# Altium footprint library RP235xA.PcbLib: 1 footprints
Each footprint in its own frame and in the unit in brackets; x right, y up, seen from the top. Pads: shape width x height; smd on the part's side, far side on the other; paste and mask are expansions set on the pad; w line width, h text height; cw(c..) or ccw(c..) is an arc to the next point about the centre after c.
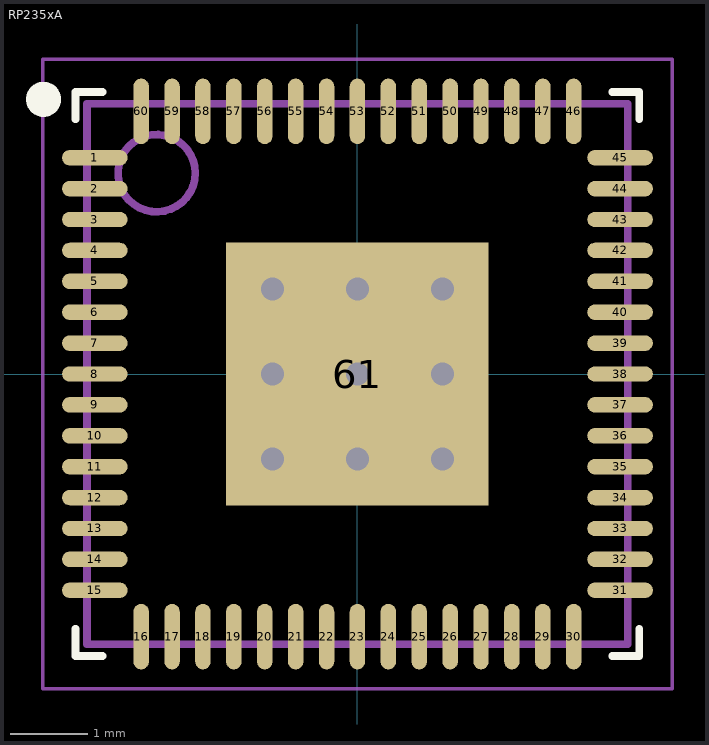
[diagram p0: the footprint, top view; thin cyan lines are the x and y axes]

## RP235xA [mm]
height 0.9
pads (61):
  oval 0.85x0.2 smd: 1(-3.4,2.8) 2(-3.4,2.4) 3(-3.4,2) 4(-3.4,1.6) 5(-3.4,1.2) 6(-3.4,0.8) 7(-3.4,0.4) 8(-3.4,0) 9(-3.4,-0.4) 10(-3.4,-0.8) 11(-3.4,-1.2) 12(-3.4,-1.6) 13(-3.4,-2) 14(-3.4,-2.4) 15(-3.4,-2.8) 31(3.4,-2.8) 32(3.4,-2.4) 33(3.4,-2) 34(3.4,-1.6) 35(3.4,-1.2) 36(3.4,-0.8) 37(3.4,-0.4) 38(3.4,0) 39(3.4,0.4) 40(3.4,0.8) 41(3.4,1.2) 42(3.4,1.6) 43(3.4,2) 44(3.4,2.4) 45(3.4,2.8)
  oval 0.2x0.85 smd: 16(-2.8,-3.4) 17(-2.4,-3.4) 18(-2,-3.4) 19(-1.6,-3.4) 20(-1.2,-3.4) 21(-0.8,-3.4) 22(-0.4,-3.4) 23(0,-3.4) 24(0.4,-3.4) 25(0.8,-3.4) 26(1.2,-3.4) 27(1.6,-3.4) 28(2,-3.4) 29(2.4,-3.4) 30(2.8,-3.4) 46(2.8,3.4) 47(2.4,3.4) 48(2,3.4) 49(1.6,3.4) 50(1.2,3.4) 51(0.8,3.4) 52(0.4,3.4) 53(0,3.4) 54(-0.4,3.4) 55(-0.8,3.4) 56(-1.2,3.4) 57(-1.6,3.4) 58(-2,3.4) 59(-2.4,3.4) 60(-2.8,3.4)
  rect 3.4x3.4 smd: 61(0,0)
via 1.1,-1.1 diameter 0.5 hole 0.3
via 0,-1.1 diameter 0.5 hole 0.3
via -1.1,-1.1 diameter 0.5 hole 0.3
via 1.1,0 diameter 0.5 hole 0.3
via 0,0 diameter 0.5 hole 0.3
via -1.1,0 diameter 0.5 hole 0.3
via 1.1,1.1 diameter 0.5 hole 0.3
via 0,1.1 diameter 0.5 hole 0.3
via -1.1,1.1 diameter 0.5 hole 0.3
Top Overlay:
  circle w0.254: c-4.064,3.556 r0.1
  lines w0.1: -3.65,-3.3 -3.65,-3.65 -3.3,-3.65 ; -3.65,3.3 -3.65,3.65 -3.3,3.65 ; 3.3,-3.65 3.65,-3.65 3.65,-3.3 ; 3.3,3.65 3.65,3.65 3.65,3.3
Mechanical 1:
  circle w0.1: c-2.6,2.6 r0.5
  lines w0.1: -3.5,-3.5 3.5,-3.5 3.5,3.5 -3.5,3.5 -3.5,-3.5
  text ".Designator" at -3.304,-0.293 h0.65
Mechanical 2:
  lines w0.05: -4.075,-4.075 4.075,-4.075 4.075,4.075 -4.075,4.075 -4.075,-4.075
  lines w0.1: -0.5,0 0.5,0 ; 0,-0.5 0,0.5
3D body "QFN40P700X700X90_HS-61N.step": height 0.9, standoff 0, extent -3.501,-3.501 3.501,3.501